# Altium footprint library PW8-M.PcbLib: 1 footprints
Each footprint in its own frame and in the unit in brackets; x right, y up, seen from the top. Pads: shape width x height; smd on the part's side, far side on the other; paste and mask are expansions set on the pad; w line width, h text height; cw(c..) or ccw(c..) is an arc to the next point about the centre after c.
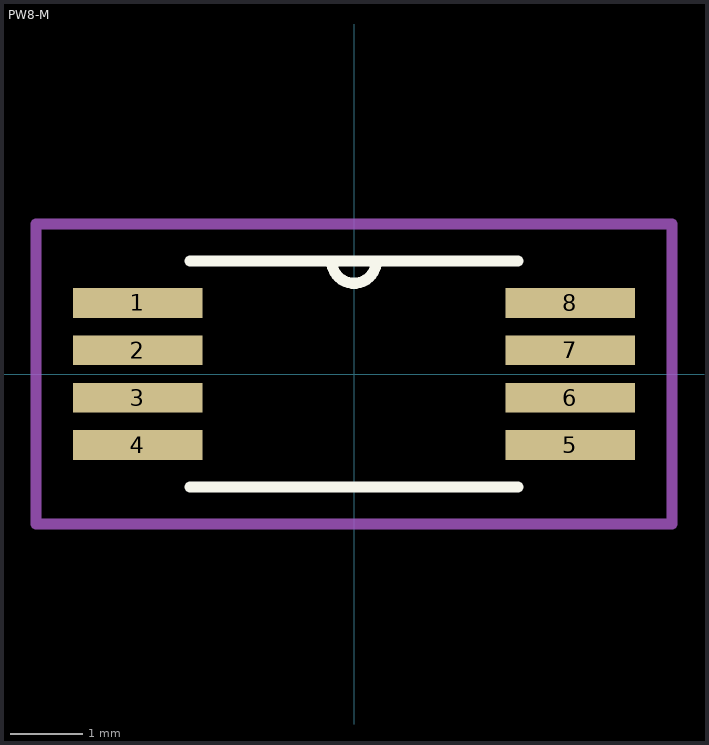
[diagram p0: the footprint, top view; thin cyan lines are the x and y axes]

## PW8-M [mil]
pads (8):
  rect 70x16 smd: 1(-117,38.39) 2(-117,12.8) 3(-117,-12.8) 4(-117,-38.39) 5(117,-38.39) 6(117,-12.8) 7(117,12.8) 8(117,38.39)
Top Overlay:
  lines w6: -88.5,-61 88.5,-61 ; -88.5,61 88.5,61 ; -12,61 ccw(c0,61) 12,61
Mechanical 13:
  lines w0: -12,61 ccw(c0,61) 12,61
Mechanical 15:
  lines w6: -172,-81 172,-81 172,81 -172,81 -172,-81
3D body "User Library-TSSOP-8.STEP": height 47.24, standoff 0, extent -125.97,-59.07 126,59.04